# EAGLE library part XC18V01 (library kamiki)
In-System Programmable Configuration PROM
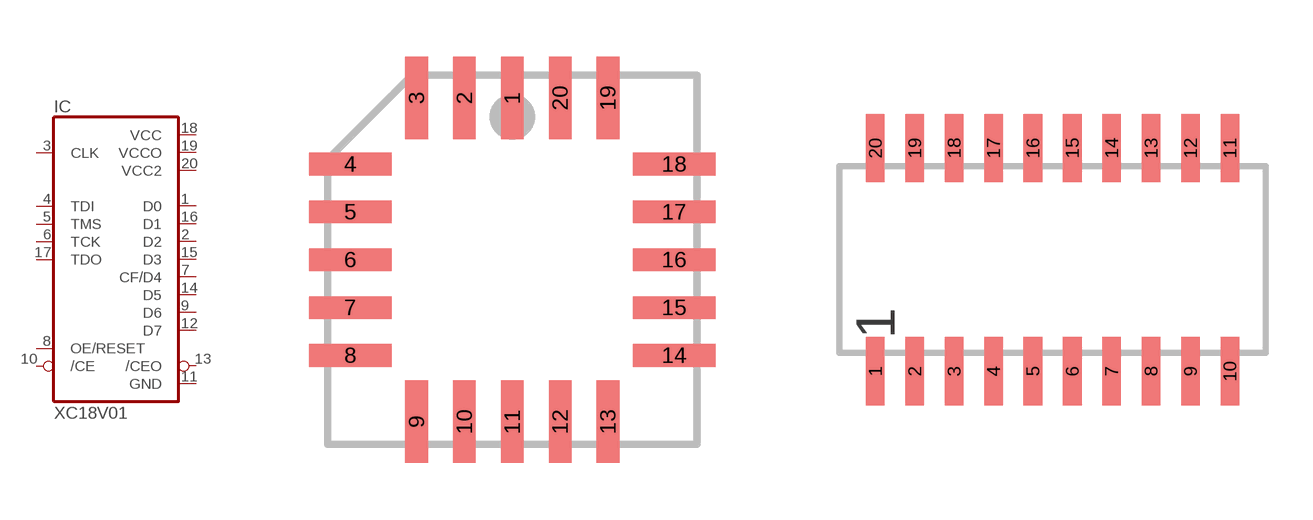
[diagram p37: symbol with the pads of PLCC20S; footprints PLCC20S, SOP20]

Designator prefix IC

## XC18V01PC20  [PLCC20S]
1  D0  hiz
2  D2  hiz
3  CLK  in
4  TDI  in
5  TMS  pas
6  TCK  pas
7  CF/D4  hiz
8  OE/RESET
9  D6  hiz
10  /CE  in
11  GND  pwr
12  D7  hiz
13  /CEO  hiz
14  D5  hiz
15  D3  hiz
16  D1  hiz
17  TDO  out
18  VCC  pwr
19  VCCO  pwr
20  VCC2  pwr

## XC18V01SO20  [SOP20]
Pads as for PLCC20S

## Footprint PLCC20S (pad centres in mm)
PLASTIC LEADED CHIP CARRIER square
smd 0.6 x 2.2: 1 0,4.3; 2 -1.27,4.3; 3 -2.54,4.3; 9 -2.54,-4.3; 10 -1.27,-4.3; 11 0,-4.3; 12 1.27,-4.3; 13 2.54,-4.3; 19 2.54,4.3; 20 1.27,4.3
smd 2.2 x 0.6: 4 -4.3,2.54; 5 -4.3,1.27; 6 -4.3,0; 7 -4.3,-1.27; 8 -4.3,-2.54; 14 4.3,-2.54; 15 4.3,-1.27; 16 4.3,0; 17 4.3,1.27; 18 4.3,2.54

## Footprint SOP20 (pad centres in mm)
SMALL OUTLINE PACKAGE
smd 0.6 x 2.2: 1 -5.715,-3.6; 2 -4.445,-3.6; 3 -3.175,-3.6; 4 -1.905,-3.6; 5 -0.635,-3.6; 6 0.635,-3.6; 7 1.905,-3.6; 8 3.175,-3.6; 9 4.445,-3.6; 10 5.715,-3.6; 11 5.715,3.6; 12 4.445,3.6; 13 3.175,3.6; 14 1.905,3.6; 15 0.635,3.6; 16 -0.635,3.6; 17 -1.905,3.6; 18 -3.175,3.6; 19 -4.445,3.6; 20 -5.715,3.6